# Altium integrated library TI Peripheral Graphics Display Controller.IntLib: 4 symbols
Pins are listed as number, name and electrical type; pins without a type are passive.

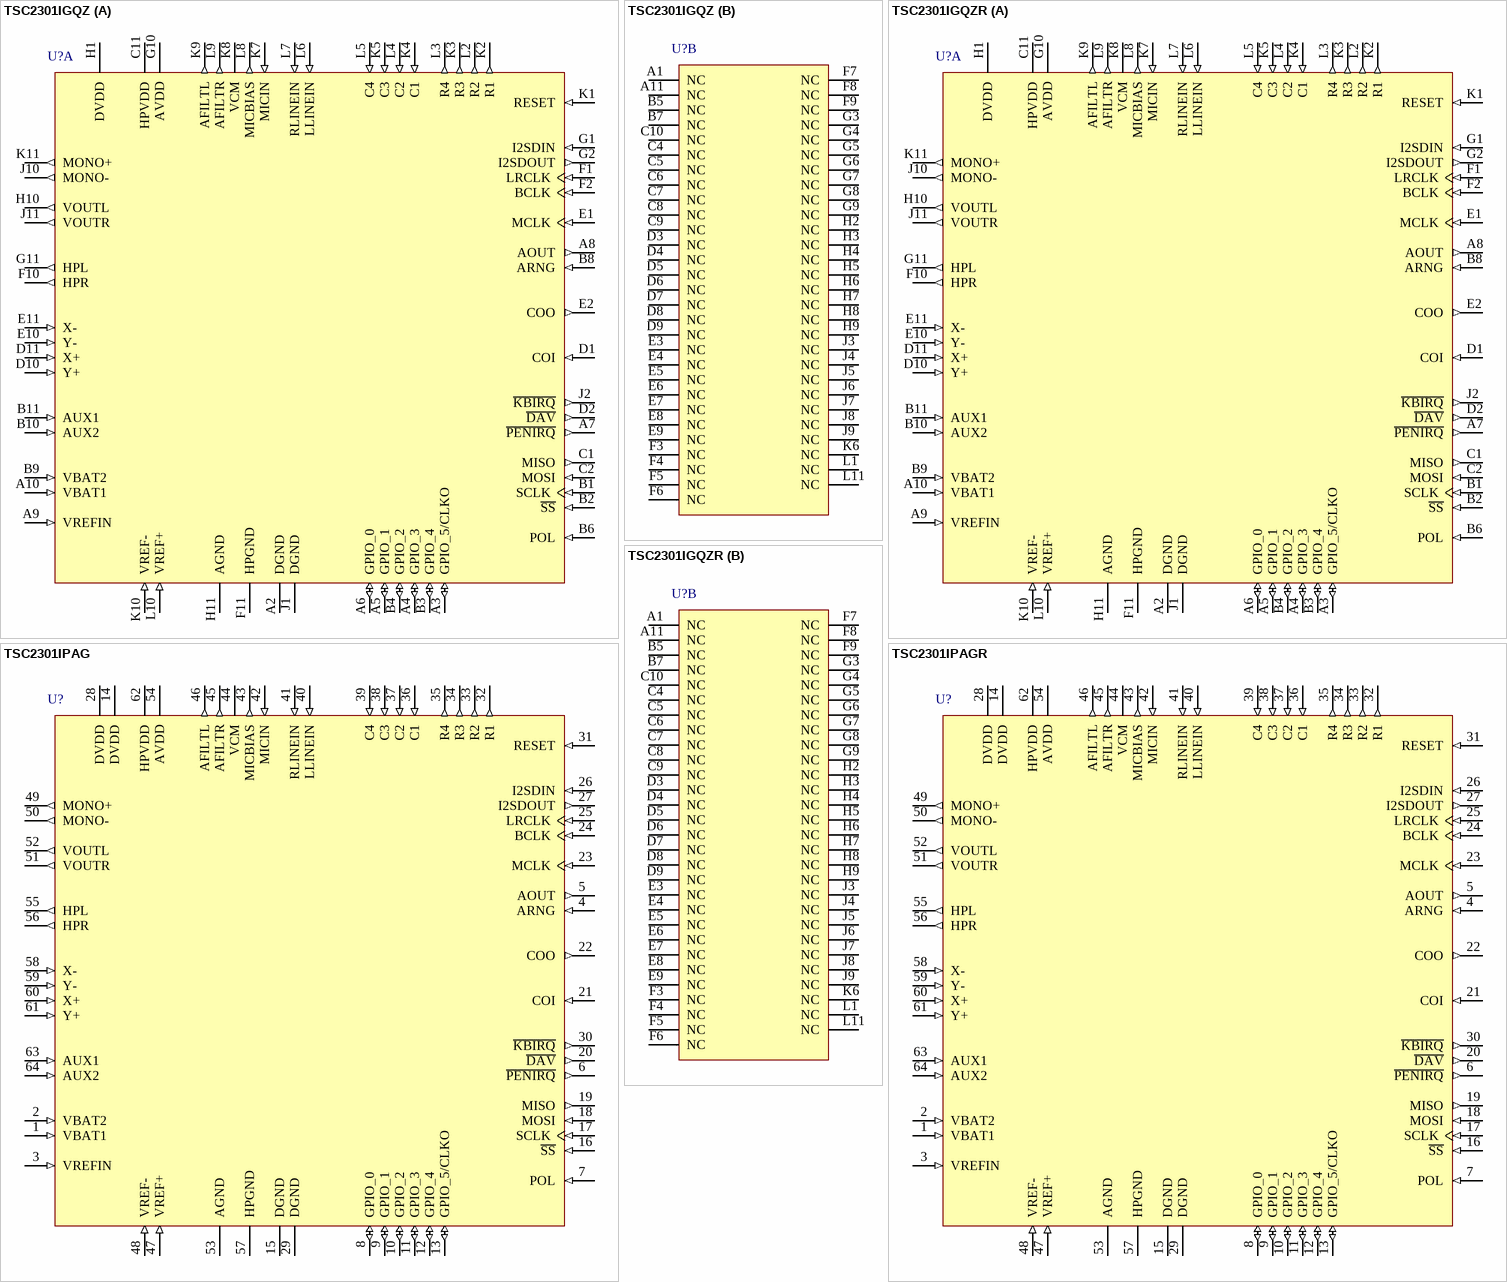
[diagram p0: symbols TSC2301IGQZ to TSC2301IPAGR]

## TSC2301IGQZ
designator U?
Programmable 4-Wire Touch Screen Controller with 20-Bit Stereo Audio Codec, VFBGA-120; Published: 6-Jun-2005; LatestRevisionDate: 13-Apr-2006; LatestRevisionNote: IPC-7351 Footprint Added.; DatasheetVersion: Rev. C, Aug-2003; PackageVersion: Jun-2004; PackageReference: GQZ120; Publisher: Altium Limited; PackageDescription: 120-Ball Ball Grid Array 0.5 mm Pitch; Code_JEDEC: MO-225; ComponentLink1Description: Manufacturer Link; ComponentLink1URL: http://focus.ti.com/docs/prod/folders/print/tsc2301.html; ComponentLink2Description: Datasheet; ComponentLink2URL: http://www-s.ti.com/sc/ds/tsc2301.pdf
footprint GQZ120 (BGA, 120-Leads, Body 6x6mm, Pitch 0.5mm)
3D model TSC2301-GQZ120 (120-Ball Ball Grid Array 0.5 mm Pitch)
part A pins: A2 DGND (power) "Digital ground", A3 GPIO_5/CLKO (io) "General-purpose input/output pin/buffered oscillator clock out", A4 GPIO_3 (io) "General-purpose input/output pin", A5 GPIO_1 (io) "General-purpose input/output pin", A6 GPIO_0 (io) "General-purpose input/output pin", A7 ~{PENIRQ} (out) "Pen interrupt", A8 AOUT (out) "Analog output current from DAC", A9 VREFIN (in) "SAR reference voltage", A10 VBAT1 (in) "Battery monitor input 1", B1 SCLK (in) "SPI clock input", B2 ~{SS} (in) "Slave select input (active low). Data is not clocked into MOSI unless SS is low. When SS is high, MISO is high impedance.", B3 GPIO_4 (io) "General-purpose input/output pin", B4 GPIO_2 (io) "General-purpose input/output pin", B6 POL (in) "SPI clock polarity", B8 ARNG (in) "DAC analog output range set", B9 VBAT2 (in) "Battery monitor input 2", B10 AUX2 (in) "SAR auxiliary analog input 2", B11 AUX1 (in) "SAR auxiliary analog input 1", C1 MISO (out) "SPI data output. Data is clocked out at SCLK falling edge. High impedance when SS is high.", C2 MOSI (in) "SPI data input. Data is clocked in at SCLK rising edge", C11 HPVDD (power) "Analog supply for headphone amplifier and touch screen circuitry", D1 COI (in) "Crystal input", D2 ~{DAV} (out) "Data available (active low).", D10 Y+ (in) "Y+ position input", D11 X+ (in) "X+ position input", E1 MCLK (in) "Master clock input for audio codec", E2 COO (out) "Crystal output", E10 Y- (in) "Y-position input", E11 X- (in) "X-position input", F1 LRCLK (in) "I2S left/right clock", F2 BCLK (in) "I2S bit clock", F10 HPR (out) "Headphone amplifier right output", F11 HPGND (power) "Analog ground for headphone amplifier and touch screen circuitry", G1 I2SDIN (in) "I2S serial data in", G2 I2SDOUT (out) "I2S serial data out", G10 AVDD (power) "Analog supply", G11 HPL (out) "Headphone amplifier left output", H1 DVDD (power) "Digital voltage supply", H10 VOUTL (out) "Audio left line output", H11 AGND (power) "Analog ground", J1 DGND (power) "Digital ground", J2 ~{KBIRQ} (out) "Keypad interrupt (active low). Indicates a key has been depressed", J10 MONO- (out) "Mono differential output", J11 VOUTR (out) "Audio right line output", K1 RESET (in) "Device reset (active high)", K2 R1 (out) "Keypad row 1", K3 R3 (out) "Keypad row 3", K4 C1 (in) "Keypad column 1", K5 C3 (in) "Keypad column 3", K7 MICIN (in) "Analog input from microphone", K8 VCM "Common-mode voltage bypass capacitor", K9 AFILTL (out) "Left-channel audio ADC antialiasing filter capacitor", K10 VREF- (in) "Audio codec negative reference voltage", K11 MONO+ (out) "Mono differential output", L2 R2 (out) "Keypad row 2", L3 R4 (out) "Keypad row 4", L4 C2 (in) "Keypad column 2", L5 C4 (in) "Keypad column 4", L6 LLINEIN (in) "Left-channel analog input to audio codec", L7 RLINEIN (in) "Right-channel analog input to audio codec", L8 MICBIAS (out) "Bias voltage output", L9 AFILTR (out) "Right-channel audio ADC antialiasing filter capacitor", L10 VREF+ (in) "Audio codec positive reference voltage"
part B pins: A1 NC "No Connection.", A11 NC "No Connection.", B5 NC "No Connection.", B7 NC "No Connection.", C4 NC "No Connection.", C5 NC "No Connection.", C6 NC "No Connection.", C7 NC "No Connection.", C8 NC "No Connection.", C9 NC "No Connection.", C10 NC "No Connection.", D3 NC "No Connection.", D4 NC "No Connection.", D5 NC "No Connection.", D6 NC "No Connection.", D7 NC "No Connection.", D8 NC "No Connection.", D9 NC "No Connection.", E3 NC "No Connection.", E4 NC "No Connection.", E5 NC "No Connection.", E6 NC "No Connection.", E7 NC "No Connection.", E8 NC "No Connection.", E9 NC "No Connection.", F3 NC "No Connection.", F4 NC "No Connection.", F5 NC "No Connection.", F6 NC "No Connection.", F7 NC "No Connection.", F8 NC "No Connection.", F9 NC "No Connection.", G3 NC "No Connection.", G4 NC "No Connection.", G5 NC "No Connection.", G6 NC "No Connection.", G7 NC "No Connection.", G8 NC "No Connection.", G9 NC "No Connection.", H2 NC "No Connection.", H3 NC "No Connection.", H4 NC "No Connection.", H5 NC "No Connection.", H6 NC "No Connection.", H7 NC "No Connection.", H8 NC "No Connection.", H9 NC "No Connection.", J3 NC "No Connection.", J4 NC "No Connection.", J5 NC "No Connection.", J6 NC "No Connection.", J7 NC "No Connection.", J8 NC "No Connection.", J9 NC "No Connection.", K6 NC "No Connection.", L1 NC "No Connection.", L11 NC "No Connection."

## TSC2301IGQZR
designator U?
Programmable 4-Wire Touch Screen Controller with 20-Bit Stereo Audio Codec, VFBGA-120; Published: 6-Jun-2005; LatestRevisionDate: 13-Apr-2006; LatestRevisionNote: IPC-7351 Footprint Added.; DatasheetVersion: Rev. C, Aug-2003; PackageVersion: Jun-2004; PackageReference: GQZ120; Publisher: Altium Limited; PackageDescription: 120-Ball Ball Grid Array 0.5 mm Pitch; Code_JEDEC: MO-225; ComponentLink1Description: Manufacturer Link; ComponentLink1URL: http://focus.ti.com/docs/prod/folders/print/tsc2301.html; ComponentLink2Description: Datasheet; ComponentLink2URL: http://www-s.ti.com/sc/ds/tsc2301.pdf
footprint GQZ120 (BGA, 120-Leads, Body 6x6mm, Pitch 0.5mm)
3D model TSC2301-GQZ120 (120-Ball Ball Grid Array 0.5 mm Pitch)
part A pins: A2 DGND (power) "Digital ground", A3 GPIO_5/CLKO (io) "General-purpose input/output pin/buffered oscillator clock out", A4 GPIO_3 (io) "General-purpose input/output pin", A5 GPIO_1 (io) "General-purpose input/output pin", A6 GPIO_0 (io) "General-purpose input/output pin", A7 ~{PENIRQ} (out) "Pen interrupt", A8 AOUT (out) "Analog output current from DAC", A9 VREFIN (in) "SAR reference voltage", A10 VBAT1 (in) "Battery monitor input 1", B1 SCLK (in) "SPI clock input", B2 ~{SS} (in) "Slave select input (active low). Data is not clocked into MOSI unless SS is low. When SS is high, MISO is high impedance.", B3 GPIO_4 (io) "General-purpose input/output pin", B4 GPIO_2 (io) "General-purpose input/output pin", B6 POL (in) "SPI clock polarity", B8 ARNG (in) "DAC analog output range set", B9 VBAT2 (in) "Battery monitor input 2", B10 AUX2 (in) "SAR auxiliary analog input 2", B11 AUX1 (in) "SAR auxiliary analog input 1", C1 MISO (out) "SPI data output. Data is clocked out at SCLK falling edge. High impedance when SS is high.", C2 MOSI (in) "SPI data input. Data is clocked in at SCLK rising edge", C11 HPVDD (power) "Analog supply for headphone amplifier and touch screen circuitry", D1 COI (in) "Crystal input", D2 ~{DAV} (out) "Data available (active low).", D10 Y+ (in) "Y+ position input", D11 X+ (in) "X+ position input", E1 MCLK (in) "Master clock input for audio codec", E2 COO (out) "Crystal output", E10 Y- (in) "Y-position input", E11 X- (in) "X-position input", F1 LRCLK (in) "I2S left/right clock", F2 BCLK (in) "I2S bit clock", F10 HPR (out) "Headphone amplifier right output", F11 HPGND (power) "Analog ground for headphone amplifier and touch screen circuitry", G1 I2SDIN (in) "I2S serial data in", G2 I2SDOUT (out) "I2S serial data out", G10 AVDD (power) "Analog supply", G11 HPL (out) "Headphone amplifier left output", H1 DVDD (power) "Digital voltage supply", H10 VOUTL (out) "Audio left line output", H11 AGND (power) "Analog ground", J1 DGND (power) "Digital ground", J2 ~{KBIRQ} (out) "Keypad interrupt (active low). Indicates a key has been depressed", J10 MONO- (out) "Mono differential output", J11 VOUTR (out) "Audio right line output", K1 RESET (in) "Device reset (active high)", K2 R1 (out) "Keypad row 1", K3 R3 (out) "Keypad row 3", K4 C1 (in) "Keypad column 1", K5 C3 (in) "Keypad column 3", K7 MICIN (in) "Analog input from microphone", K8 VCM "Common-mode voltage bypass capacitor", K9 AFILTL (out) "Left-channel audio ADC antialiasing filter capacitor", K10 VREF- (in) "Audio codec negative reference voltage", K11 MONO+ (out) "Mono differential output", L2 R2 (out) "Keypad row 2", L3 R4 (out) "Keypad row 4", L4 C2 (in) "Keypad column 2", L5 C4 (in) "Keypad column 4", L6 LLINEIN (in) "Left-channel analog input to audio codec", L7 RLINEIN (in) "Right-channel analog input to audio codec", L8 MICBIAS (out) "Bias voltage output", L9 AFILTR (out) "Right-channel audio ADC antialiasing filter capacitor", L10 VREF+ (in) "Audio codec positive reference voltage"
part B pins: A1 NC "No Connection.", A11 NC "No Connection.", B5 NC "No Connection.", B7 NC "No Connection.", C4 NC "No Connection.", C5 NC "No Connection.", C6 NC "No Connection.", C7 NC "No Connection.", C8 NC "No Connection.", C9 NC "No Connection.", C10 NC "No Connection.", D3 NC "No Connection.", D4 NC "No Connection.", D5 NC "No Connection.", D6 NC "No Connection.", D7 NC "No Connection.", D8 NC "No Connection.", D9 NC "No Connection.", E3 NC "No Connection.", E4 NC "No Connection.", E5 NC "No Connection.", E6 NC "No Connection.", E7 NC "No Connection.", E8 NC "No Connection.", E9 NC "No Connection.", F3 NC "No Connection.", F4 NC "No Connection.", F5 NC "No Connection.", F6 NC "No Connection.", F7 NC "No Connection.", F8 NC "No Connection.", F9 NC "No Connection.", G3 NC "No Connection.", G4 NC "No Connection.", G5 NC "No Connection.", G6 NC "No Connection.", G7 NC "No Connection.", G8 NC "No Connection.", G9 NC "No Connection.", H2 NC "No Connection.", H3 NC "No Connection.", H4 NC "No Connection.", H5 NC "No Connection.", H6 NC "No Connection.", H7 NC "No Connection.", H8 NC "No Connection.", H9 NC "No Connection.", J3 NC "No Connection.", J4 NC "No Connection.", J5 NC "No Connection.", J6 NC "No Connection.", J7 NC "No Connection.", J8 NC "No Connection.", J9 NC "No Connection.", K6 NC "No Connection.", L1 NC "No Connection.", L11 NC "No Connection."

## TSC2301IPAG
designator U?
Programmable 4-Wire Touch Screen Controller with 20-Bit Stereo Audio Codec, TQFP-64; Published: 6-Jun-2005; LatestRevisionDate: 13-Apr-2006; LatestRevisionNote: IPC-7351 Footprint Added.; DatasheetVersion: Rev. C, Aug-2003; PackageVersion: Dec-1996; PackageReference: PAG64; Publisher: Altium Limited; PackageDescription: 64-Pin Thin Quad Flat Pack 0.5 mm Pitch; Code_JEDEC: MS-026; ComponentLink1Description: Manufacturer Link; ComponentLink1URL: http://focus.ti.com/docs/prod/folders/print/tsc2301.html; ComponentLink2Description: Datasheet; ComponentLink2URL: http://www-s.ti.com/sc/ds/tsc2301.pdf
footprint PAG64_N (Thin QFP, 64-Leads, Body 10x10mm, Pitch 0.5mm, IPC Medium Density)
footprint PAG64_L (Thin QFP, 64-Leads, Body 10x10mm, Pitch 0.5mm, IPC High Density)
footprint PAG64_M (Thin QFP, 64-Leads, Body 10x10mm, Pitch 0.5mm, IPC Low Density)
3D model TSC2301-PAG64 (64-Pin Thin Quad Flat Pack 0.5 mm Pitch)
pins: 1 VBAT1 (in) "Battery monitor input 1", 2 VBAT2 (in) "Battery monitor input 2", 3 VREFIN (in) "SAR reference voltage", 4 ARNG (in) "DAC analog output range set", 5 AOUT (out) "Analog output current from DAC", 6 ~{PENIRQ} (out) "Pen interrupt", 7 POL (in) "SPI clock polarity", 8 GPIO_0 (io) "General-purpose input/output pin", 9 GPIO_1 (io) "General-purpose input/output pin", 10 GPIO_2 (io) "General-purpose input/output pin", 11 GPIO_3 (io) "General-purpose input/output pin", 12 GPIO_4 (io) "General-purpose input/output pin", 13 GPIO_5/CLKO (io) "General-purpose input/output pin/buffered oscillator clock out", 14 DVDD (power) "Digital voltage supply", 15 DGND (power) "Digital ground", 16 ~{SS} (in) "Slave select input (active low). Data is not clocked into MOSI unless SS is low. When SS is high, MISO is high impedance.", 17 SCLK (in) "SPI clock input", 18 MOSI (in) "SPI data input. Data is clocked in at SCLK rising edge", 19 MISO (out) "SPI data output. Data is clocked out at SCLK falling edge. High impedance when SS is high.", 20 ~{DAV} (out) "Data available (active low).", 21 COI (in) "Crystal input", 22 COO (out) "Crystal output", 23 MCLK (in) "Master clock input for audio codec", 24 BCLK (in) "I2S bit clock", 25 LRCLK (in) "I2S left/right clock", 26 I2SDIN (in) "I2S serial data in", 27 I2SDOUT (out) "I2S serial data out", 28 DVDD (power) "Digital voltage supply", 29 DGND (power) "Digital ground", 30 ~{KBIRQ} (out) "Keypad interrupt (active low). Indicates a key has been depressed", 31 RESET (in) "Device reset (active high)", 32 R1 (out) "Keypad row 1", 33 R2 (out) "Keypad row 2", 34 R3 (out) "Keypad row 3", 35 R4 (out) "Keypad row 4", 36 C1 (in) "Keypad column 1", 37 C2 (in) "Keypad column 2", 38 C3 (in) "Keypad column 3", 39 C4 (in) "Keypad column 4", 40 LLINEIN (in) "Left-channel analog input to audio codec", 41 RLINEIN (in) "Right-channel analog input to audio codec", 42 MICIN (in) "Analog input from microphone", 43 MICBIAS (out) "Bias voltage output", 44 VCM "Common-mode voltage bypass capacitor", 45 AFILTR (out) "Right-channel audio ADC antialiasing filter capacitor", 46 AFILTL (out) "Left-channel audio ADC antialiasing filter capacitor", 47 VREF+ (in) "Audio codec positive reference voltage", 48 VREF- (in) "Audio codec negative reference voltage", 49 MONO+ (out) "Mono differential output", 50 MONO- (out) "Mono differential output", 51 VOUTR (out) "Audio right line output", 52 VOUTL (out) "Audio left line output", 53 AGND (power) "Analog ground", 54 AVDD (power) "Analog supply", 55 HPL (out) "Headphone amplifier left output", 56 HPR (out) "Headphone amplifier right output", 57 HPGND (power) "Analog ground for headphone amplifier and touch screen circuitry", 58 X- (in) "X-position input", 59 Y- (in) "Y-position input", 60 X+ (in) "X+ position input", 61 Y+ (in) "Y+ position input", 62 HPVDD (power) "Analog supply for headphone amplifier and touch screen circuitry", 63 AUX1 (in) "SAR auxiliary analog input 1", 64 AUX2 (in) "SAR auxiliary analog input 2"

## TSC2301IPAGR
designator U?
Programmable 4-Wire Touch Screen Controller with 20-Bit Stereo Audio Codec, TQFP-64; Published: 6-Jun-2005; LatestRevisionDate: 13-Apr-2006; LatestRevisionNote: IPC-7351 Footprint Added.; DatasheetVersion: Rev. C, Aug-2003; PackageVersion: Dec-1996; PackageReference: PAG64; Publisher: Altium Limited; PackageDescription: 64-Pin Thin Quad Flat Pack 0.5 mm Pitch; Code_JEDEC: MS-026; ComponentLink1Description: Manufacturer Link; ComponentLink1URL: http://focus.ti.com/docs/prod/folders/print/tsc2301.html; ComponentLink2Description: Datasheet; ComponentLink2URL: http://www-s.ti.com/sc/ds/tsc2301.pdf
footprint PAG64_N (Thin QFP, 64-Leads, Body 10x10mm, Pitch 0.5mm, IPC Medium Density)
footprint PAG64_L (Thin QFP, 64-Leads, Body 10x10mm, Pitch 0.5mm, IPC High Density)
footprint PAG64_M (Thin QFP, 64-Leads, Body 10x10mm, Pitch 0.5mm, IPC Low Density)
3D model TSC2301-PAG64 (64-Pin Thin Quad Flat Pack 0.5 mm Pitch)
pins: 1 VBAT1 (in) "Battery monitor input 1", 2 VBAT2 (in) "Battery monitor input 2", 3 VREFIN (in) "SAR reference voltage", 4 ARNG (in) "DAC analog output range set", 5 AOUT (out) "Analog output current from DAC", 6 ~{PENIRQ} (out) "Pen interrupt", 7 POL (in) "SPI clock polarity", 8 GPIO_0 (io) "General-purpose input/output pin", 9 GPIO_1 (io) "General-purpose input/output pin", 10 GPIO_2 (io) "General-purpose input/output pin", 11 GPIO_3 (io) "General-purpose input/output pin", 12 GPIO_4 (io) "General-purpose input/output pin", 13 GPIO_5/CLKO (io) "General-purpose input/output pin/buffered oscillator clock out", 14 DVDD (power) "Digital voltage supply", 15 DGND (power) "Digital ground", 16 ~{SS} (in) "Slave select input (active low). Data is not clocked into MOSI unless SS is low. When SS is high, MISO is high impedance.", 17 SCLK (in) "SPI clock input", 18 MOSI (in) "SPI data input. Data is clocked in at SCLK rising edge", 19 MISO (out) "SPI data output. Data is clocked out at SCLK falling edge. High impedance when SS is high.", 20 ~{DAV} (out) "Data available (active low).", 21 COI (in) "Crystal input", 22 COO (out) "Crystal output", 23 MCLK (in) "Master clock input for audio codec", 24 BCLK (in) "I2S bit clock", 25 LRCLK (in) "I2S left/right clock", 26 I2SDIN (in) "I2S serial data in", 27 I2SDOUT (out) "I2S serial data out", 28 DVDD (power) "Digital voltage supply", 29 DGND (power) "Digital ground", 30 ~{KBIRQ} (out) "Keypad interrupt (active low). Indicates a key has been depressed", 31 RESET (in) "Device reset (active high)", 32 R1 (out) "Keypad row 1", 33 R2 (out) "Keypad row 2", 34 R3 (out) "Keypad row 3", 35 R4 (out) "Keypad row 4", 36 C1 (in) "Keypad column 1", 37 C2 (in) "Keypad column 2", 38 C3 (in) "Keypad column 3", 39 C4 (in) "Keypad column 4", 40 LLINEIN (in) "Left-channel analog input to audio codec", 41 RLINEIN (in) "Right-channel analog input to audio codec", 42 MICIN (in) "Analog input from microphone", 43 MICBIAS (out) "Bias voltage output", 44 VCM "Common-mode voltage bypass capacitor", 45 AFILTR (out) "Right-channel audio ADC antialiasing filter capacitor", 46 AFILTL (out) "Left-channel audio ADC antialiasing filter capacitor", 47 VREF+ (in) "Audio codec positive reference voltage", 48 VREF- (in) "Audio codec negative reference voltage", 49 MONO+ (out) "Mono differential output", 50 MONO- (out) "Mono differential output", 51 VOUTR (out) "Audio right line output", 52 VOUTL (out) "Audio left line output", 53 AGND (power) "Analog ground", 54 AVDD (power) "Analog supply", 55 HPL (out) "Headphone amplifier left output", 56 HPR (out) "Headphone amplifier right output", 57 HPGND (power) "Analog ground for headphone amplifier and touch screen circuitry", 58 X- (in) "X-position input", 59 Y- (in) "Y-position input", 60 X+ (in) "X+ position input", 61 Y+ (in) "Y+ position input", 62 HPVDD (power) "Analog supply for headphone amplifier and touch screen circuitry", 63 AUX1 (in) "SAR auxiliary analog input 1", 64 AUX2 (in) "SAR auxiliary analog input 2"